# EAGLE library part FEATHER-ESP32 (library Coert Vonk (backup))
Adafruit HUZZAH ESP32 Feather
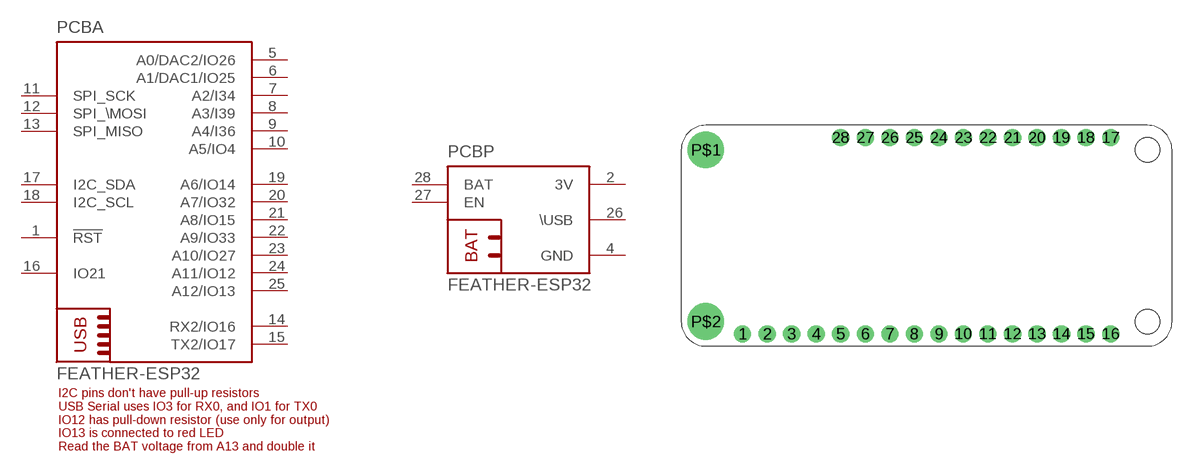
[diagram p12: symbol with the pads of FEATHER-ESP32; footprint FEATHER-ESP32]

Designator prefix PCB; gates A=FEATHER-ESP32 P=FEATHER-ESP32-POWER

## FEATHER-ESP32  [FEATHER-ESP32]
1  A:!RST  in
2  P:3V  sup
4  P:GND  pwr
5  A:A0/DAC2/IO26
6  A:A1/DAC1/IO25
7  A:A2/I34  in
8  A:A3/I39  in
9  A:A4/I36  in
10  A:A5/IO4
11  A:SPI_SCK
12  A:SPI_\MOSI
13  A:SPI_MISO
14  A:RX2/IO16
15  A:TX2/IO17
16  A:IO21
17  A:I2C_SDA
18  A:I2C_SCL
19  A:A6/IO14
20  A:A7/IO32
21  A:A8/IO15
22  A:A9/IO33
23  A:A10/IO27
24  A:A11/IO12
25  A:A12/IO13
26  P:\USB  sup
27  P:EN  pas
28  P:BAT  sup

## Footprint FEATHER-ESP32 (pad centres in mm)
drill 1 pad 1.778: 1 -19.05,-8.89; 2 -16.51,-8.89; 3 -13.97,-8.89; 4 -11.43,-8.89; 5 -8.89,-8.89; 6 -6.35,-8.89; 7 -3.81,-8.89; 8 -1.27,-8.89; 9 1.27,-8.89; 10 3.81,-8.89; 11 6.35,-8.89; 12 8.89,-8.89; 13 11.43,-8.89; 14 13.97,-8.89; 15 16.51,-8.89; 16 19.05,-8.89; 17 19.05,11.43; 18 16.51,11.43; 19 13.97,11.43; 20 11.43,11.43; 21 8.89,11.43; 22 6.35,11.43; 23 3.81,11.43; 24 1.27,11.43; 25 -1.27,11.43; 26 -3.81,11.43; 27 -6.35,11.43; 28 -8.89,11.43
drill 2.5 pad 3.81: P$1 -22.86,10.16; P$2 -22.86,-7.62
hole 2.54 at 22.86,10.16
hole 2.54 at 22.86,-7.62